# Altium integrated library Atmel RF Idenfification.IntLib: 9 symbols
Pins are listed as number, name and electrical type; pins without a type are passive.

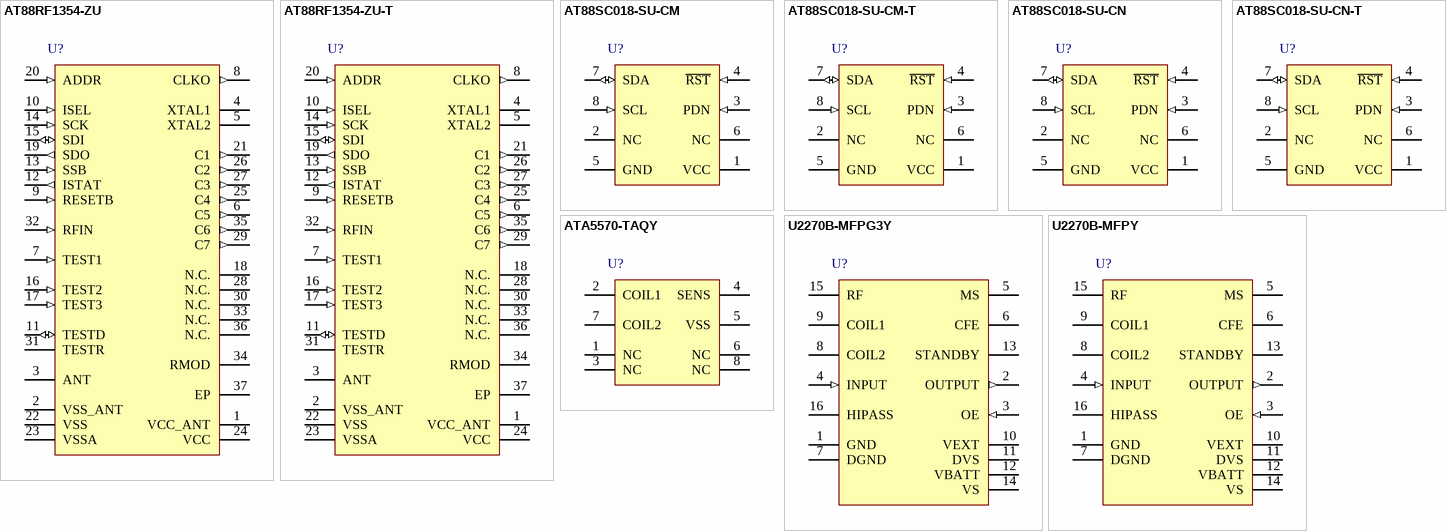
[diagram p0: symbols AT88RF1354-ZU to U2270B-MFPY]

## AT88RF1354-ZU
designator U?
13.56 MHz Type B RF Reader, 36 pin QFN thermal package, 6 x 6 mm, Green (exceeds RoHS), in Trays, Industrial Grade (-40°C to 85°C); Published: 20-Sep-2010; DatasheetVersion: revB, Mar-2009; PackageVersion: revA, Aug-2008; PackageReference: 36ML1; Publisher: Altium Limited; PackageDescription: 36-Pin Molded Quad Flat No-Lead, 6 x 6 mm Body, 0.5 mm Pitch, Punched (QFN); Supplier 1: Digi-Key; Supplier Part Number 1: AT88RF1354-ZU-ND; Supplier 2: Mouser; Supplier Part Number 2: 556-AT88RF1354-ZU; Code_JEDEC: MO-220WJJD-1; ComponentLink1Description: Manufacturer Link; ComponentLink1URL: http://www.atmel.com/products/RFID/; ComponentLink2Description: AT88RF1354 Datasheet; ComponentLink2URL: http://www.atmel.com/dyn/resources/prod_documents/doc8547.pdf; ComponentLink3Description: Atmel.com Home; ComponentLink3URL: http://www.atmel.com
footprint 36ML1_N (QFN, 36-Leads, Body 6x6mm, Pitch 0.5mm, IPC Medium Density)
footprint 36ML1_L (QFN, 36-Leads, Body 6x6mm, Pitch 0.5mm, IPC High Density)
footprint 36ML1_M (QFN, 36-Leads, Body 6x6mm, Pitch 0.5mm, IPC Low Density)
pins: 1 VCC_ANT (power), 2 VSS_ANT (power), 3 ANT (oc), 4 XTAL1, 5 XTAL2, 6 C5 (out), 7 TEST1 (in), 8 CLKO (out), 9 RESETB (in), 10 ISEL (in), 11 TESTD (io), 12 ISTAT (out), 13 SSB (in), 14 SCK (in), 15 SDI (io), 16 TEST2 (in), 17 TEST3 (in), 18 N.C., 19 SDO (out), 20 ADDR (in), 21 C1 (out), 22 VSS (power), 23 VSSA (power), 24 VCC (power), 25 C4 (out), 26 C2 (out), 27 C3 (out), 28 N.C., 29 C7 (out), 30 N.C., 31 TESTR, 32 RFIN (in), 33 N.C., 34 RMOD (power), 35 C6 (out), 36 N.C., 37 EP

## AT88RF1354-ZU-T
designator U?
13.56 MHz Type B RF Reader, 36 pin QFN thermal package, 6 x 6 mm, Green (exceeds RoHS), Tape & Reel, Industrial Grade (-40°C to 85°C); Published: 20-Sep-2010; DatasheetVersion: revB, Mar-2009; PackageVersion: revA, Aug-2008; PackageReference: 36ML1; Publisher: Altium Limited; PackageDescription: 36-Pin Molded Quad Flat No-Lead, 6 x 6 mm Body, 0.5 mm Pitch, Punched (QFN); Supplier 1: Digi-Key; Supplier Part Number 1: AT88RF1354-ZU-T-ND; Supplier 2: Mouser; Supplier Part Number 2: 556-AT88RF1354-ZU-T; Code_JEDEC: MO-220WJJD-1; ComponentLink1Description: Manufacturer Link; ComponentLink1URL: http://www.atmel.com/products/RFID/; ComponentLink2Description: AT88RF1354 Datasheet; ComponentLink2URL: http://www.atmel.com/dyn/resources/prod_documents/doc8547.pdf; ComponentLink3Description: Atmel.com Home; ComponentLink3URL: http://www.atmel.com
footprint 36ML1_N (QFN, 36-Leads, Body 6x6mm, Pitch 0.5mm, IPC Medium Density)
footprint 36ML1_L (QFN, 36-Leads, Body 6x6mm, Pitch 0.5mm, IPC High Density)
footprint 36ML1_M (QFN, 36-Leads, Body 6x6mm, Pitch 0.5mm, IPC Low Density)
pins: 1 VCC_ANT (power), 2 VSS_ANT (power), 3 ANT (oc), 4 XTAL1, 5 XTAL2, 6 C5 (out), 7 TEST1 (in), 8 CLKO (out), 9 RESETB (in), 10 ISEL (in), 11 TESTD (io), 12 ISTAT (out), 13 SSB (in), 14 SCK (in), 15 SDI (io), 16 TEST2 (in), 17 TEST3 (in), 18 N.C., 19 SDO (out), 20 ADDR (in), 21 C1 (out), 22 VSS (power), 23 VSSA (power), 24 VCC (power), 25 C4 (out), 26 C2 (out), 27 C3 (out), 28 N.C., 29 C7 (out), 30 N.C., 31 TESTR, 32 RFIN (in), 33 N.C., 34 RMOD (power), 35 C6 (out), 36 N.C., 37 EP

## AT88SC018-SU-CM
designator U?
CryptoCompanion™ Chip for CryptoMemory and CryptoRF, Memory Locking, 8-Pin SOIC, GreenCompliant (exceeds RoHS), Industrial Grade (-40°C to 85°C), Bulk; Published: 20-Sep-2010; DatasheetVersion: revC, Sep-2009; PackageVersion: revC, Mar-2005; PackageReference: 8S1; Publisher: Altium Limited; PackageDescription: 8-Lead (0.150" Wide Body), Plastic Gull Wing Small Outline (JEDEC SOIC); Supplier 1: Digi-Key; Supplier Part Number 1: AT88SC018-SU-CM-ND; Supplier 2: Mouser; Supplier Part Number 2: 556-AT88SC018-SU-CM; Code_JEDEC: MS-012-AA; Code_IPC: SOIC127P600-8; ComponentLink1Description: Manufacturer Link; ComponentLink1URL: http://www.atmel.com/products/RFID/; ComponentLink2Description: AT88SC018 Summary; ComponentLink2URL: http://www.atmel.com/dyn/resources/prod_documents/5277s.pdf; ComponentLink3Description: Atmel.com Home; ComponentLink3URL: http://www.atmel.com
footprint 8S1_N (SOIC, 8-Leads, Body 4.9x3.9mm, Pitch 1.27mm, IPC Medium Density)
footprint 8S1_L (SOIC, 8-Leads, Body 4.9x3.9mm, Pitch 1.27mm, IPC High Density)
footprint 8S1_M (SOIC, 8-Leads, Body 4.9x3.9mm, Pitch 1.27mm, IPC Low Density)
pins: 1 VCC (power), 2 NC, 3 PDN (in), 4 ~{RST} (in), 5 GND (power), 6 NC, 7 SDA (io), 8 SCL (in)

## AT88SC018-SU-CM-T
designator U?
CryptoCompanion™ Chip for CryptoMemory and CryptoRF, Memory Locking, 8-Pin SOIC, GreenCompliant (exceeds RoHS), Industrial Grade (-40°C to 85°C), Tape and Reel; Published: 20-Sep-2010; DatasheetVersion: revC, Sep-2009; PackageVersion: revC, Mar-2005; PackageReference: 8S1; Publisher: Altium Limited; PackageDescription: 8-Lead (0.150" Wide Body), Plastic Gull Wing Small Outline (JEDEC SOIC); Supplier 1: Digi-Key; Supplier Part Number 1: AT88SC018-SU-CM-T-ND; Supplier 2: Mouser; Supplier Part Number 2: 556-AT88SC018SUCMT; Code_JEDEC: MS-012-AA; Code_IPC: SOIC127P600-8; ComponentLink1Description: Manufacturer Link; ComponentLink1URL: http://www.atmel.com/products/RFID/; ComponentLink2Description: AT88SC018 Summary; ComponentLink2URL: http://www.atmel.com/dyn/resources/prod_documents/5277s.pdf; ComponentLink3Description: Atmel.com Home; ComponentLink3URL: http://www.atmel.com
footprint 8S1_N (SOIC, 8-Leads, Body 4.9x3.9mm, Pitch 1.27mm, IPC Medium Density)
footprint 8S1_L (SOIC, 8-Leads, Body 4.9x3.9mm, Pitch 1.27mm, IPC High Density)
footprint 8S1_M (SOIC, 8-Leads, Body 4.9x3.9mm, Pitch 1.27mm, IPC Low Density)
pins: 1 VCC (power), 2 NC, 3 PDN (in), 4 ~{RST} (in), 5 GND (power), 6 NC, 7 SDA (io), 8 SCL (in)

## AT88SC018-SU-CN
designator U?
CryptoCompanion™ Chip for CryptoMemory and CryptoRF, Memory Locking, 8-Pin SOIC, GreenCompliant (exceeds RoHS), Industrial Grade (-40°C to 85°C), Bulk; Published: 20-Sep-2010; DatasheetVersion: revC, Sep-2009; PackageVersion: revC, Mar-2005; PackageReference: 8S1; Publisher: Altium Limited; PackageDescription: 8-Lead (0.150" Wide Body), Plastic Gull Wing Small Outline (JEDEC SOIC); Supplier 1: Digi-Key; Supplier Part Number 1: AT88SC018-SU-CN-ND; Supplier 2: Mouser; Supplier Part Number 2: 556-AT88SC018-SU-CN; Code_JEDEC: MS-012-AA; Code_IPC: SOIC127P600-8; ComponentLink1Description: Manufacturer Link; ComponentLink1URL: http://www.atmel.com/products/RFID/; ComponentLink2Description: AT88SC018 Summary; ComponentLink2URL: http://www.atmel.com/dyn/resources/prod_documents/5277s.pdf; ComponentLink3Description: Atmel.com Home; ComponentLink3URL: http://www.atmel.com
footprint 8S1_N (SOIC, 8-Leads, Body 4.9x3.9mm, Pitch 1.27mm, IPC Medium Density)
footprint 8S1_L (SOIC, 8-Leads, Body 4.9x3.9mm, Pitch 1.27mm, IPC High Density)
footprint 8S1_M (SOIC, 8-Leads, Body 4.9x3.9mm, Pitch 1.27mm, IPC Low Density)
pins: 1 VCC (power), 2 NC, 3 PDN (in), 4 ~{RST} (in), 5 GND (power), 6 NC, 7 SDA (io), 8 SCL (in)

## AT88SC018-SU-CN-T
designator U?
CryptoCompanion™ Chip for CryptoMemory and CryptoRF, Memory Locking, 8-Pin SOIC, GreenCompliant (exceeds RoHS), Industrial Grade (-40°C to 85°C), Tape and Reel; Published: 20-Sep-2010; DatasheetVersion: revC, Sep-2009; PackageVersion: revC, Mar-2005; PackageReference: 8S1; Publisher: Altium Limited; PackageDescription: 8-Lead (0.150" Wide Body), Plastic Gull Wing Small Outline (JEDEC SOIC); Supplier 1: Digi-Key; Supplier Part Number 1: AT88SC018-SU-CN-T-ND; Supplier 2: Mouser; Supplier Part Number 2: 556-AT88SC018SUCNT; Code_JEDEC: MS-012-AA; Code_IPC: SOIC127P600-8; ComponentLink1Description: Manufacturer Link; ComponentLink1URL: http://www.atmel.com/products/RFID/; ComponentLink2Description: AT88SC018 Summary; ComponentLink2URL: http://www.atmel.com/dyn/resources/prod_documents/5277s.pdf; ComponentLink3Description: Atmel.com Home; ComponentLink3URL: http://www.atmel.com
footprint 8S1_N (SOIC, 8-Leads, Body 4.9x3.9mm, Pitch 1.27mm, IPC Medium Density)
footprint 8S1_L (SOIC, 8-Leads, Body 4.9x3.9mm, Pitch 1.27mm, IPC High Density)
footprint 8S1_M (SOIC, 8-Leads, Body 4.9x3.9mm, Pitch 1.27mm, IPC Low Density)
pins: 1 VCC (power), 2 NC, 3 PDN (in), 4 ~{RST} (in), 5 GND (power), 6 NC, 7 SDA (io), 8 SCL (in)

## ATA5570-TAQY
designator U?
Multifunctional 330-Bit Read/Write RF Sensor Identification IC, 8-Pin SO; Published: 20-Sep-2010; DatasheetVersion: revA, Jul-2005; PackageVersion: rev1, Aug-2006; PackageReference: SO8; Publisher: Altium Limited; PackageDescription: 8-Pin Small Outline Integrated Circuit 1.27 mm Pitch; ComponentLink1Description: Manufacturer Link; ComponentLink1URL: http://www.atmel.com/products/RFID/; ComponentLink2Description: ATA5570 Datasheet; ComponentLink2URL: http://www.atmel.com/dyn/resources/prod_documents/doc4863.pdf; ComponentLink3Description: Atmel.com Home; ComponentLink3URL: http://www.atmel.com
footprint SO8_N (SOIC, 8-Leads, Body 4.9x3.8mm, Pitch 1.27mm, IPC Medium Density)
footprint SO8_L (SOIC, 8-Leads, Body 4.9x3.8mm, Pitch 1.27mm, IPC High Density)
footprint SO8_M (SOIC, 8-Leads, Body 4.9x3.8mm, Pitch 1.27mm, IPC Low Density)
pins: 1 NC, 2 COIL1, 3 NC, 4 SENS (power), 5 VSS (power), 6 NC, 7 COIL2, 8 NC

## U2270B-MFPG3Y
designator U?
Read/Write Base Station, 16-Pin SO, Tape and Reel, Pb-Free; Published: 20-Sep-2010; DatasheetVersion: revE, Feb-2008; PackageVersion: 2007; PackageReference: SO16; Publisher: Altium Limited; PackageDescription: 16-Pin Small Outline Integrated Circuit 1.27 mm Pitch; Supplier 1: Digi-Key; Supplier Part Number 1: U2270B-MFPG3Y-ND; Supplier 2: Mouser; Supplier Part Number 2: 556-U2270BMFPG3Y; ComponentLink1Description: Manufacturer Link; ComponentLink1URL: http://www.atmel.com/products/RFID/; ComponentLink2Description: U2270B Datasheet; ComponentLink2URL: http://www.atmel.com/dyn/resources/prod_documents/doc4684.pdf; ComponentLink3Description: Atmel.com Home; ComponentLink3URL: http://www.atmel.com
footprint SO16_N (SOIC, 16-Leads, Body 9.9x3.8mm, Pitch 1.27mm, IPC Medium Density)
footprint SO16_L (SOIC, 16-Leads, Body 9.9x3.8mm, Pitch 1.27mm, IPC High Density)
footprint SO16_M (SOIC, 16-Leads, Body 9.9x3.8mm, Pitch 1.27mm, IPC Low Density)
pins: 1 GND (power), 2 OUTPUT (out), 3 OE (in), 4 INPUT (in), 5 MS, 6 CFE, 7 DGND, 8 COIL2, 9 COIL1, 10 VEXT (power), 11 DVS (power), 12 VBATT, 13 STANDBY, 14 VS (power), 15 RF, 16 HIPASS

## U2270B-MFPY
designator U?
Read/Write Base Station, 16-Pin SO, Tube, Pb-Free; Published: 20-Sep-2010; DatasheetVersion: revE, Feb-2008; PackageVersion: 2007; PackageReference: SO16; Publisher: Altium Limited; PackageDescription: 16-Pin Small Outline Integrated Circuit 1.27 mm Pitch; Supplier 1: Digi-Key; Supplier Part Number 1: U2270B-MFPY-ND; Supplier 2: Farnell; Supplier Part Number 2: 1095806; Supplier 3: Mouser; Supplier Part Number 3: 556-U2270BMFPY; ComponentLink1Description: Manufacturer Link; ComponentLink1URL: http://www.atmel.com/products/RFID/; ComponentLink2Description: U2270B Datasheet; ComponentLink2URL: http://www.atmel.com/dyn/resources/prod_documents/doc4684.pdf; ComponentLink3Description: Atmel.com Home; ComponentLink3URL: http://www.atmel.com
footprint SO16_N (SOIC, 16-Leads, Body 9.9x3.8mm, Pitch 1.27mm, IPC Medium Density)
footprint SO16_L (SOIC, 16-Leads, Body 9.9x3.8mm, Pitch 1.27mm, IPC High Density)
footprint SO16_M (SOIC, 16-Leads, Body 9.9x3.8mm, Pitch 1.27mm, IPC Low Density)
pins: 1 GND (power), 2 OUTPUT (out), 3 OE (in), 4 INPUT (in), 5 MS, 6 CFE, 7 DGND, 8 COIL2, 9 COIL1, 10 VEXT (power), 11 DVS (power), 12 VBATT, 13 STANDBY, 14 VS (power), 15 RF, 16 HIPASS